# EAGLE library part 595-541-165-ULN2803_74HC165N (library DINv2.1)
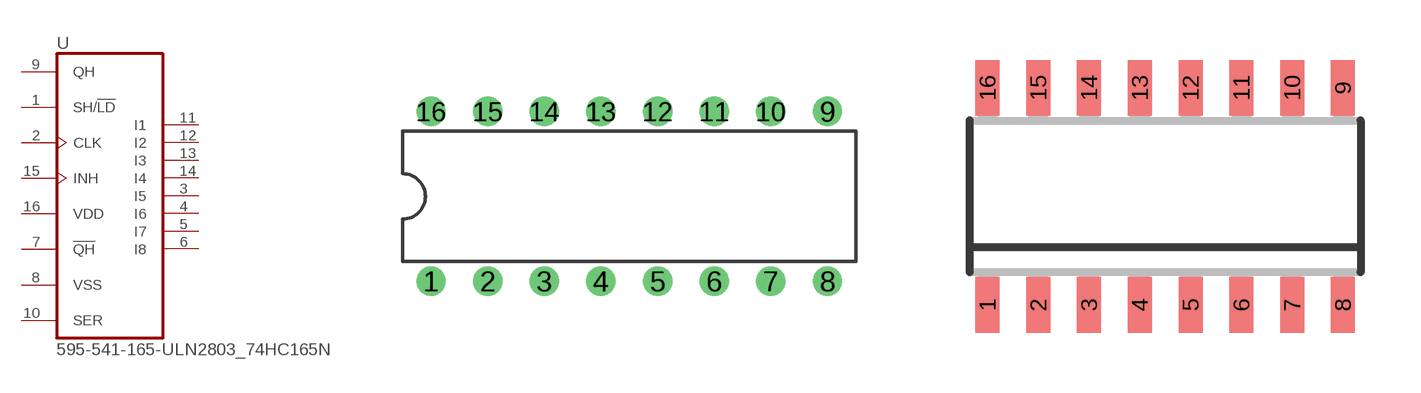
[diagram p0: symbol with the pads of 595-541-165-ULN2803_DIL16; footprints 595-541-165-ULN2803_DIL16, 595-541-165-ULN2803_SO16D]

Designator prefix -

## 595-541-165-ULN2803_74HC165NDIL16  [595-541-165-ULN2803_DIL16]
1  SH/!LD  in
2  CLK  in
3  I5  in
4  I6  in
5  I7  in
6  I8  in
7  !QH  out
8  VSS  pwr
9  QH  out
10  SER  in
11  I1  in
12  I2  in
13  I3  in
14  I4  in
15  INH  in
16  VDD  pwr

## 595-541-165-ULN2803_74HC165NSO16D, 595-541-165-ULN2803_74HC165NSO16DSO16D  [595-541-165-ULN2803_SO16D]
Pads as for 595-541-165-ULN2803_DIL16

## Footprint 595-541-165-ULN2803_DIL16 (pad centres in mm)
drill 0.813: 1 -8.89,-3.81; 2 -6.35,-3.81; 3 -3.81,-3.81; 4 -1.27,-3.81; 5 1.27,-3.81; 6 3.81,-3.81; 7 6.35,-3.81; 8 8.89,-3.81; 9 8.89,3.81; 10 6.35,3.81; 11 3.81,3.81; 12 1.27,3.81; 13 -1.27,3.81; 14 -3.81,3.81; 15 -6.35,3.81; 16 -8.89,3.81

## Footprint 595-541-165-ULN2803_SO16D (pad centres in mm)
smd 0.6 x 1.4: 1 -4.481,-2.764; 2 -3.211,-2.764; 3 -1.941,-2.764; 4 -0.671,-2.764; 5 0.599,-2.764; 6 1.869,-2.764; 7 3.139,-2.764; 8 4.409,-2.764; 9 4.409,2.666; 10 3.139,2.666; 11 1.869,2.666; 12 0.599,2.666; 13 -0.671,2.666; 14 -1.941,2.666; 15 -3.211,2.666; 16 -4.481,2.666